# Altium footprint library Base_Footprints.PcbLib: 43 footprints (part 3 of 3)
Each footprint in its own frame and in the unit in brackets; x right, y up, seen from the top. Pads: shape width x height; smd on the part's side, far side on the other; paste and mask are expansions set on the pad; w line width, h text height; cw(c..) or ccw(c..) is an arc to the next point about the centre after c.
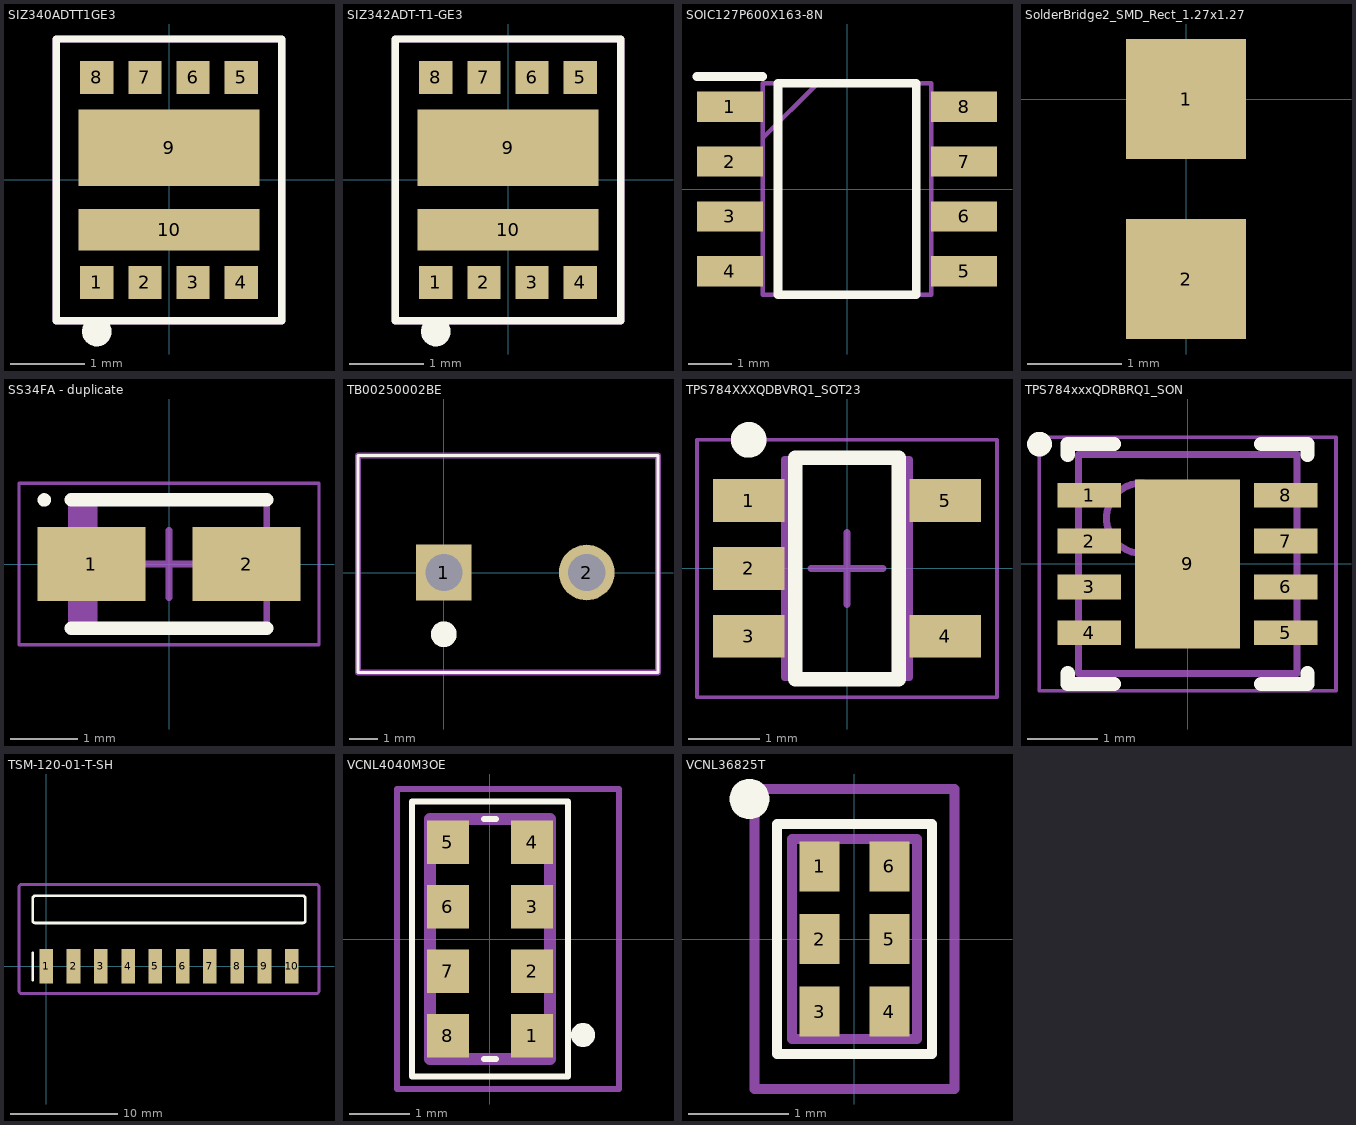
[diagram p2: the footprints below, top view; thin cyan lines are the x and y axes]

## SIZ340ADTT1GE3 [mm]
pads (10):
  rect 0.45x0.45 smd: 1(-0.975,-1.386) 2(-0.325,-1.386) 3(0.325,-1.386) 4(0.975,-1.386) 5(0.975,1.386) 6(0.325,1.386) 7(-0.325,1.386) 8(-0.975,1.386)
  rect 2.45x1.036 smd: 9(0,0.434)
  rect 2.45x0.562 smd: 10(0,-0.671)
Top Overlay:
  circle w0.2: c-0.975,-2.05 r0.1
  lines w0.1: -0.975,-2.1 ccw(c-0.975,-2.05) -0.975,-2 ; -1.524,-1.905 1.524,-1.905 1.524,1.905 -1.524,1.905 -1.524,-1.905
Mechanical 15:
  lines w0.1: -1.524,-1.905 -1.524,1.905 1.524,1.905 1.524,-1.905 -1.524,-1.905
3D body "SIZ340ADT-T1-GE3.stp": height 0.9, standoff 0, extent -1.489,-1.564 1.511,1.568

## SIZ342ADT-T1-GE3 [mm]
pads (10):
  rect 0.45x0.45 smd: 1(-0.975,-1.386) 2(-0.325,-1.386) 3(0.325,-1.386) 4(0.975,-1.386) 5(0.975,1.386) 6(0.325,1.386) 7(-0.325,1.386) 8(-0.975,1.386)
  rect 2.45x1.036 smd: 9(0,0.434)
  rect 2.45x0.562 smd: 10(0,-0.671)
Top Overlay:
  circle w0.2: c-0.975,-2.05 r0.1
  lines w0.1: -0.975,-2.1 ccw(c-0.975,-2.05) -0.975,-2 ; -1.524,-1.905 1.524,-1.905 1.524,1.905 -1.524,1.905 -1.524,-1.905
Mechanical 15:
  lines w0.1: -1.524,-1.905 -1.524,1.905 1.524,1.905 1.524,-1.905 -1.524,-1.905
3D body "SIZ340ADT-T1-GE3.stp": height 0.9, standoff 0, extent -1.489,-1.564 1.511,1.568

## SOIC127P600X163-8N [mm]
pads (8):
  rect 1.525x0.7 smd: 1(-2.712,1.905) 2(-2.712,0.635) 3(-2.712,-0.635) 4(-2.712,-1.905) 5(2.712,-1.905) 6(2.712,-0.635) 7(2.712,0.635) 8(2.712,1.905)
Top Overlay:
  lines w0.2: -3.475,2.605 -1.95,2.605 ; -1.6,-2.45 1.6,-2.45 1.6,2.45 -1.6,2.45 -1.6,-2.45
Mechanical 15:
  lines w0.1: -1.95,1.18 -0.68,2.45 ; -1.95,-2.45 1.95,-2.45 1.95,2.45 -1.95,2.45 -1.95,-2.45
3D body "MIC4605-2YM-TR.stp": height 1.63, standoff 0, extent -2.997,-2.45 2.997,2.45

## SolderBridge2_SMD_Rect_1.27x1.27 [mm]
pads (2):
  rect 1.27x1.27 smd paste-2539.97: 1(0,0) 2(0,-1.905)

## SS34FA - duplicate [mm] "SS34FA Molded Diode, 2-Leads, Body 2,80x1,80mm, IPC Medium Density"
height 1.43
pads (2):
  rect 1.6x1.1 smd: 1(-1.15,0) 2(1.15,0)
Top Overlay:
  circle w0.1: c-1.85,0.95 r0.05
  lines w0.2: -1.45,-0.95 1.45,-0.95 ; -1.45,0.95 1.45,0.95
Top Courtyard:
  lines w0.05: -2.225,-1.2 -2.225,1.2 2.225,1.2 2.225,-1.2 -2.225,-1.2
  lines w0.1: -0.5,0 0.5,0 ; 0,-0.5 0,0.5
Mechanical 13:
  rectangle: -1.45,-0.95 -1.06,0.95
  lines w0.1: -1.45,-0.95 -1.45,0.95 1.45,0.95 1.45,-0.95 -1.45,-0.95
3D body: height 1.43, standoff 0, extent -1.45,-0.95 1.45,0.95

## TB00250002BE [mm]
pads (2):
  rect 1.95x1.95 hole 1.3: 1(0,0)
  round 1.95 hole 1.3: 2(5,0)
Top Overlay:
  circle w0.5: c0,-2.159 r0.2
  lines w0.1: -3.004,-3.5 -3.004,4.1 7.496,4.1 7.496,-3.5 -3.004,-3.5
Mechanical 1:
  lines w0.2: -3.004,-3.5 -3.004,4.1 7.496,4.1 7.496,-3.5 -3.004,-3.5
3D body "TB002-500-02BE.stp": height 10, standoff -4.35, extent -2.964,-3.536 7.536,4.064

## TPS784XXXQDBVRQ1_SOT23 [mm] "SOT23, 5-Leads, Body 2,90x2,80mm, Pitch 0,95mm, IPC Medium Density"
height 1.45
pads (5):
  rect 1x0.6 smd: 1(-1.375,0.95) 2(-1.375,0) 3(-1.375,-0.95) 4(1.375,-0.95) 5(1.375,0.95)
Top Overlay:
  circle w0.25: c-1.375,1.8 r0.125
  lines w0.2: -0.725,-1.55 -0.725,1.55 0.725,1.55 0.725,-1.55 -0.725,-1.55
Top Courtyard:
  lines w0.05: -2.1,-1.8 2.1,-1.8 2.1,1.8 -2.1,1.8 -2.1,-1.8
  lines w0.1: -0.5,0 0.5,0 ; 0,-0.5 0,0.5
Mechanical 13:
  lines w0.1: -0.875,-1.525 0.875,-1.525 0.875,1.525 -0.875,1.525 -0.875,-1.525
3D body: height 1.45, standoff 0.05, extent -0.875,-1.525 0.875,1.525

## TPS784xxxQDRBRQ1_SON [mm] "SON127P600-8N"
height 1
pads (9):
  rect 0.9x0.35 smd: 1(-1.395,0.975) 2(-1.395,0.325) 3(-1.395,-0.325) 4(-1.395,-0.975) 5(1.395,-0.975) 6(1.395,-0.325) 7(1.395,0.325) 8(1.395,0.975)
  rect 1.49x2.4 smd: 9(0,0)
Top Overlay:
  circle w0.25: c-2.1,1.7 r0.05
  lines w0.2: -1.7,-1.55 -1.7,-1.7 -1.045,-1.7 ; -1.7,1.55 -1.7,1.7 -1.045,1.7 ; 1.045,-1.7 1.7,-1.7 1.7,-1.55 ; 1.045,1.7 1.7,1.7 1.7,1.55
Top Courtyard:
  lines w0.05: -2.105,-1.8 -2.105,1.8 2.105,1.8 2.105,-1.8 -2.105,-1.8
  lines w0.1: -0.5,0 0.5,0 ; 0,-0.5 0,0.5
Mechanical 13:
  circle w0.1: c-0.65,0.65 r0.5
  lines w0.1: -1.55,-1.55 -1.55,1.55 1.55,1.55 1.55,-1.55 -1.55,-1.55
3D body: height 1, standoff 0, extent -1.55,-1.55 1.55,1.55

## TSM-120-01-T-SH [mm]
pads (10):
  rect 1.27x3.18 smd: 1(0,0) 2(2.54,0) 3(5.08,0) 4(7.62,0) 5(10.16,0) 6(12.7,0) 7(15.24,0) 8(17.78,0) 9(20.32,0) 10(22.86,0)
Top Overlay:
  lines w0.254: -1.27,-1.27 -1.27,1.27 ; -1.27,4.284 ccw(c-1.016,4.284) -1.016,4.03 23.876,4.03 ccw(c23.876,4.284) 24.13,4.284 24.13,6.316 ccw(c23.876,6.316) 23.876,6.57 -1.016,6.57 ccw(c-1.016,6.316) -1.27,6.316 -1.27,4.284
Top Courtyard:
  lines w0.254: -2.54,-2.286 ccw(c-2.286,-2.286) -2.286,-2.54 25.146,-2.54 ccw(c25.146,-2.286) 25.4,-2.286 25.4,7.366 ccw(c25.146,7.366) 25.146,7.62 -2.286,7.62 ccw(c-2.286,7.366) -2.54,7.366 -2.54,-2.286

## VCNL4040M3OE [mm]
pads (8):
  rect 0.7x0.725 smd: 1(0.7,-1.612) 2(0.7,-0.537) 3(0.7,0.538) 4(0.7,1.613) 5(-0.7,1.613) 6(-0.7,0.538) 7(-0.7,-0.537) 8(-0.7,-1.612)
Top Overlay:
  lines w0.1: -0.1,-2 0.1,-2 ; -0.1,2 0.1,2 ; -1.3,-2.295 1.3,-2.295 1.3,2.295 -1.3,2.295 -1.3,-2.295
  lines w0.2: 1.55,-1.7 cw(c1.55,-1.6) 1.55,-1.5 cw(c1.55,-1.6) 1.55,-1.7
Mechanical 15:
  lines w0.2: -1,-2 1,-2 1,2 -1,2 -1,-2
Mechanical 20:
  lines w0.1: -1.55,-2.5 2.15,-2.5 2.15,2.5 -1.55,2.5 -1.55,-2.5
3D body "VCNL4040M3OE.stp": height 1.25, standoff 0, extent -1,-2 1,2

## VCNL36825T [mm]
pads (6):
  rect 0.4x0.5 smd: 1(-0.35,0.725) 2(-0.35,0) 3(-0.35,-0.725) 4(0.35,-0.725) 5(0.35,0) 6(0.35,0.725)
Top Overlay:
  lines w0.1: -0.775,-1.15 0.775,-1.15 0.775,1.15 -0.775,1.15 -0.775,-1.15
  lines w0.2: -1.05,1.3 ccw(c-1.05,1.4) -1.05,1.5 ccw(c-1.05,1.4) -1.05,1.3
Mechanical 15:
  lines w0.1: -0.625,-1 0.625,-1 0.625,1 -0.625,1 -0.625,-1
Mechanical 20:
  lines w0.1: -1,-1.5 1,-1.5 1,1.5 -1,1.5 -1,-1.5
3D body "VCNL36825T.stp": height 0.7, standoff 0, extent -0.625,-1 0.625,1